# Altium footprint library SparkFun-Capacitors.PCBLIB: 25 footprints (part 1 of 2)
Each footprint in its own frame and in the unit in brackets; x right, y up, seen from the top. Pads: shape width x height; smd on the part's side, far side on the other; paste and mask are expansions set on the pad; w line width, h text height; cw(c..) or ccw(c..) is an arc to the next point about the centre after c.
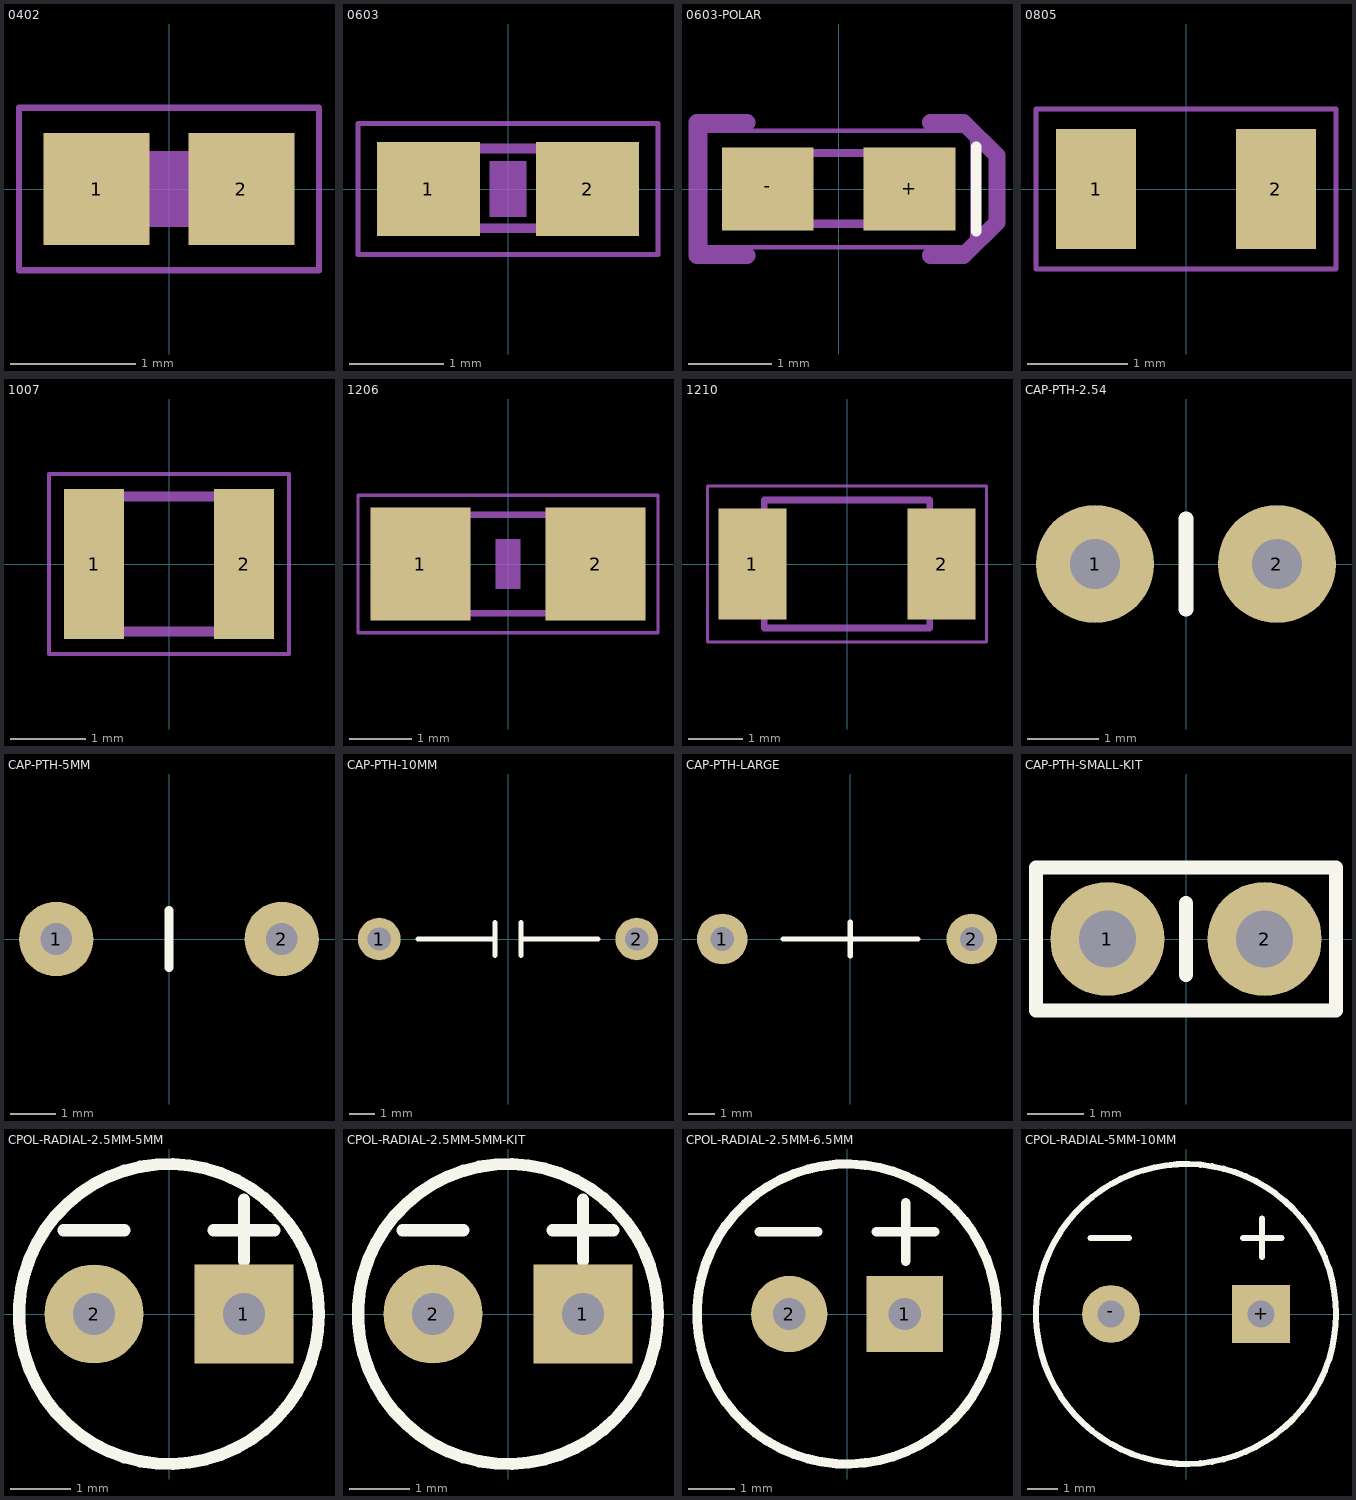
[diagram p0: the footprints below, top view; thin cyan lines are the x and y axes]

## 0402 [mil]
pads (2):
  rect 33.46x35.43 smd: 1(-22.83,0) 2(22.83,0)
Mechanical 6:
  rectangle: -7.87,-11.81 7.87,11.81
Mechanical 16:
  rectangle: 10.19,-12 22,12
  rectangle: -21.81,-12 -10,12
  lines w6: -10.65,-9 10.65,-9 ; -10.65,9 10.65,9
Mechanical 27:
  lines w2: -47.24,-25.59 -47.24,25.59 47.24,25.59 47.24,-25.59 -47.24,-25.59

## 0603 [mm]
pads (2):
  rect 1.1x1 smd: 1(-0.85,0) 2(0.85,0)
Mechanical 6:
  rectangle: -0.2,-0.3 0.2,0.3
Mechanical 16:
  rectangle: -0.838,-0.47 -0.338,0.48
  rectangle: 0.33,-0.47 0.83,0.48
  lines w0.102: -0.356,-0.419 0.356,-0.419 ; -0.356,0.432 0.356,0.432
Mechanical 27:
  lines w0.051: -1.6,-0.7 1.6,-0.7 1.6,0.7 -1.6,0.7 -1.6,-0.7

## 0603-POLAR [mm]
pads (2):
  rect 1.1x1 smd: +(0.85,0) -(-0.85,0)
Top Overlay:
  lines w0.127: 1.651,-0.508 1.651,0.508
Mechanical 16:
  rectangle: 0.33,-0.47 0.83,0.48
  rectangle: -0.838,-0.47 -0.338,0.48
  lines w0.102: -0.356,-0.419 0.356,-0.419 ; -0.356,0.432 0.356,0.432
  lines w0.203: -1.1,-0.8 -1.7,-0.8 -1.7,0.8 -1.1,0.8 ; 1.1,-0.8 1.5,-0.8 1.9,-0.4 1.9,0.4 1.5,0.8 1.1,0.8
Mechanical 27:
  lines w0.051: -1.6,-0.7 -1.6,0.7 1.6,0.7 1.6,-0.7 -1.6,-0.7

## 0805 [mil]
pads (2):
  rect 31.5x47.24 smd: 1(-35.43,0) 2(35.43,0)
Mechanical 27:
  lines w2: -59.06,-31.5 59.06,-31.5 59.06,31.5 -59.06,31.5 -59.06,-31.5

## 1007 [mm]
pads (2):
  rect 0.8x2 smd: 1(-1,0) 2(1,0)
Mechanical 16:
  lines w0.127: -1.25,-0.9 -1.25,0.9 1.25,0.9 1.25,-0.9 -1.25,-0.9
Mechanical 27:
  lines w0.051: -1.6,-1.2 1.6,-1.2 1.6,1.2 -1.6,1.2 -1.6,-1.2

## 1206 [mil]
pads (2):
  rect 62.99x70.87 smd: 1(-55.12,0) 2(55.12,0)
Mechanical 6:
  rectangle: -7.87,-15.75 7.87,15.75
Mechanical 16:
  rectangle: -67,-33.5 -37.47,33.43
  rectangle: 37.47,-33.43 67,33.5
  lines w4: -37.99,-30.98 37.99,-30.98 ; -37.99,30.98 37.99,30.98
Mechanical 27:
  lines w2: -94.49,-43.31 94.49,-43.31 94.49,43.31 -94.49,43.31 -94.49,-43.31

## 1210 [mil]
pads (2):
  rect 50x81.1 smd: 1(-69.09,0) 2(69.09,0)
Mechanical 16:
  lines w5: -60.49,-46.71 60.49,-46.71 60.49,46.71 -60.49,46.71 -60.49,-46.71
Mechanical 27:
  lines w2: -101.97,-57.09 101.97,-57.09 101.97,57.09 -101.97,57.09 -101.97,-57.09

## CAP-PTH-2.54 [mil]
pads (2):
  round 65 hole 27.56: 1(-50,0) 2(50,0)
Top Overlay:
  lines w8: 0,-25 0,25

## CAP-PTH-5MM [mil]
pads (2):
  round 65 hole 27.56: 1(-98.43,0) 2(98.43,0)
Top Overlay:
  lines w8: 0,-25 0,25

## CAP-PTH-10MM [mil]
pads (2):
  round 65 hole 35.43: 1(-196.85,0) 2(196.85,0)
Top Overlay:
  lines w8: -137.8,0 -19.69,0 ; -19.69,-25 -19.69,0 ; -19.69,25 -19.69,0 ; 19.69,-25 19.69,0 ; 19.69,25 19.69,0 ; 137.8,0 19.69,0

## CAP-PTH-LARGE [mil]
pads (2):
  round 75 hole 35.43: 1(-190,0) 2(180,0)
Top Overlay:
  lines w8: -100,0 0,0 ; 0,-25 0,0 ; 0,25 0,0 ; 100,0 0,0

## CAP-PTH-SMALL-KIT [mil]
pads (2):
  round 80 hole 40: 1(-55,0) 2(55,0)
Top Overlay:
  lines w10: 0,-25 0,25 ; -105,-50 -105,50 105,50 105,-50 -105,-50
Top Solder:
  region: 54.9,-17.3 51.5,-17.38 45.15,-14.92 40.23,-10.23 37.48,-4 37.4,-0.6 37.31,2.97 39.88,9.64 44.8,14.81 51.33,17.71 54.9,17.8 58.42,17.74 64.88,14.94 69.78,9.87 72.36,3.32 72.3,-0.2 72.27,-3.63 69.59,-9.95 64.69,-14.76 58.33,-17.33
  region: -55.3,-17.3 -58.7,-17.38 -65.05,-14.92 -69.97,-10.23 -72.72,-4 -72.8,-0.6 -72.89,2.97 -70.32,9.64 -65.4,14.81 -58.87,17.71 -55.3,17.8 -51.78,17.74 -45.32,14.94 -40.42,9.87 -37.84,3.32 -37.9,-0.2 -37.93,-3.63 -40.61,-9.95 -45.51,-14.76 -51.87,-17.33
Bottom Solder:
  region: 55,-37.3 51.35,-37.35 44.16,-36.02 37.37,-33.31 31.24,-29.33 26.01,-24.24 21.87,-18.21 18.98,-11.5 17.46,-4.35 17.41,-0.7 17.36,3.04 18.73,10.39 21.51,17.33 25.59,23.59 30.81,28.94 36.98,33.17 43.85,36.11 51.16,37.66 54.9,37.7 58.64,37.65 65.95,36.08 72.81,33.12 78.97,28.88 84.18,23.51 88.24,17.24 91,10.29 92.35,2.94 92.3,-0.8 92.26,-4.43 90.77,-11.55 87.91,-18.23 83.81,-24.24 78.61,-29.32 72.53,-33.29 65.78,-36 58.63,-37.34
  region: -55.2,-37.3 -58.85,-37.35 -66.04,-36.02 -72.83,-33.31 -78.96,-29.34 -84.2,-24.24 -88.34,-18.22 -91.23,-11.5 -92.75,-4.35 -92.8,-0.7 -92.84,3.04 -91.47,10.39 -88.7,17.33 -84.62,23.59 -79.39,28.94 -73.23,33.17 -66.35,36.11 -59.04,37.66 -55.3,37.7 -51.56,37.65 -44.25,36.08 -37.39,33.12 -31.23,28.88 -26.02,23.51 -21.96,17.24 -19.2,10.29 -17.85,2.94 -17.9,-0.8 -17.94,-4.43 -19.43,-11.55 -22.29,-18.23 -26.39,-24.24 -31.59,-29.32 -37.67,-33.29 -44.42,-36 -51.57,-37.34

## CPOL-RADIAL-2.5MM-5MM [mil]
pads (2):
  rect 65x65 hole 27.56: 1(49.21,0)
  round 65 hole 27.56: 2(-49.21,0)
Top Overlay:
  circle w8: c0,0 r98.43
  lines w8: -69.21,55 -29.21,55 ; 29.21,55 69.21,55 ; 49.21,35 49.21,75

## CPOL-RADIAL-2.5MM-5MM-KIT [mil]
pads (2):
  rect 65x65 hole 27.56: 1(49.21,0)
  round 65 hole 27.56: 2(-49.21,0)
Top Overlay:
  circle w8: c0,0 r98.43
  lines w8: -69.21,55 -29.21,55 ; 29.21,55 69.21,55 ; 49.21,35 49.21,75
Top Solder:
  circle w0: c-49.21,0 r14
  circle w0: c49.21,0 r14
Bottom Solder:
  circle w0: c-49.21,0 r38
  rectangle: 11.21,-38 87.21,38

## CPOL-RADIAL-2.5MM-6.5MM [mil]
pads (2):
  rect 65x65 hole 27.56: 1(49.21,0)
  round 65 hole 27.56: 2(-49.21,0)
Top Overlay:
  circle w8: c0,0 r127.95
  lines w8: -75,70 -25,70 ; 25,70 75,70 ; 50,45 50,95
3D body "User Library-CapAluRadial_D63H110.STEP": height 492.13, standoff -118.11, extent -133.85,-133.81 133.87,133.82

## CPOL-RADIAL-5MM-10MM [mil]
pads (2):
  rect 76x76 hole 35.43: +(98.43,0)
  round 76 hole 35.43: -(-98.43,0)
Top Overlay:
  circle w8: c0,0 r196.85
  lines w8: -125,100 -75,100 ; 75,100 125,100 ; 100,75 100,125